# Altium schematic symbol library 22 RESISTORS_THD_AX14_8mm_S.SchLib: 9 symbols
Pins are listed as number, name and electrical type; pins without a type are passive.

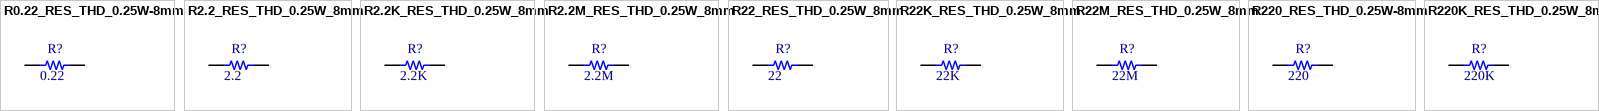
[diagram p0: symbols R0.22_RES_THD_0.25W-8mm to R220K_RES_THD_0.25W_8mm]

## R0.22_RES_THD_0.25W-8mm
designator R?  value 0.22  (hidden comment: *)
RESISTOR_0.22Ohm_THD_0.25W-8mm; Pacakge: THT; Rating: 0.25W; Type: 5%
footprint R0.22_RES_THD_AX14_0.25W (RESISTOR 0.22 Ohm  THD AX14 0.25W Length  8mm)
pins: 1, 2

## R2.2_RES_THD_0.25W_8mm
designator R?  value 2.2  (hidden comment: *)
RESISTOR_2.2Ohm_THD_0.25W-8mm; Pacakge: THT; Rating: 0.25W; Type: 5%
footprint R2.2_RES_THD_AX14_0.25W (RESISTOR 2.2 Ohm  THD AX14 0.25W Length  8mm)
pins: 1, 2

## R2.2K_RES_THD_0.25W_8mm
designator R?  value 2.2K  (hidden comment: *)
RESISTOR_2.2KOhm_THD_0.25W-8mm; Pacakge: THT; Rating: 0.25W; Type: 5%
footprint R2.2K_RES_THD_AX14_0.25W (RESISTOR 2.2K Ohm  THD AX14 0.25W Length  8mm)
pins: 1, 2

## R2.2M_RES_THD_0.25W_8mm
designator R?  value 2.2M  (hidden comment: *)
RESISTOR_2.2MOhm_THD_0.25W-8mm; Pacakge: THT; Rating: 0.25W; Type: 5%
footprint R2.2M_RES_THD_AX14_0.25W (RESISTOR 2.2M Ohm  THD AX14 0.25W Length  8mm)
pins: 1, 2

## R22_RES_THD_0.25W_8mm
designator R?  value 22  (hidden comment: *)
RESISTOR_22Ohm_THD_0.25W-8mm; Pacakge: THT; Rating: 0.25W; Type: 5%; Parameter 1: *
footprint R22_RES_THD_AX14_0.25W (RESISTOR 22 Ohm  THD AX14 0.25W Length  8mm)
pins: 1, 2

## R22K_RES_THD_0.25W_8mm
designator R?  value 22K  (hidden comment: *)
RESISTOR_22KOhm_THD_0.25W-8mm; Pacakge: THT; Rating: 0.25W; Type: 5%
footprint R22K_RES_THD_AX14_0.25W (RESISTOR 22K Ohm  THD AX14 0.25W Length  8mm)
pins: 1, 2

## R22M_RES_THD_0.25W_8mm
designator R?  value 22M  (hidden comment: *)
RESISTOR_22MOhm_THD_0.25W-8mm; Pacakge: THT; Rating: 0.25W; Type: 5%
footprint R22M_RES_THD_AX14_0.25W (RESISTOR 22M Ohm  THD AX14 0.25W Length  8mm)
pins: 1, 2

## R220_RES_THD_0.25W-8mm
designator R?  value 220  (hidden comment: *)
RESISTOR_220Ohm_THD_0.25W-8mm; Pacakge: THT; Rating: 0.25W; Type: 5%; Parameter 1: *
footprint R220_RES_THD_AX14_0.25W (RESISTOR 220 Ohm  THD AX14 0.25W Length  8mm)
pins: 1, 2

## R220K_RES_THD_0.25W_8mm
designator R?  value 220K  (hidden comment: *)
RESISTOR_220KOhm_THD_0.25W-8mm; Pacakge: THT; Rating: 0.25W; Type: 5%
footprint R220K_RES_THD_AX14_0.25W (RESISTOR 220K Ohm  THD AX14 0.25W Length  8mm)
pins: 1, 2